# Altium footprint library IFBpcblib.PcbLib: 127 footprints (part 5 of 8)
Each footprint in its own frame and in the unit in brackets; x right, y up, seen from the top. Pads: shape width x height; smd on the part's side, far side on the other; paste and mask are expansions set on the pad; w line width, h text height; cw(c..) or ccw(c..) is an arc to the next point about the centre after c.
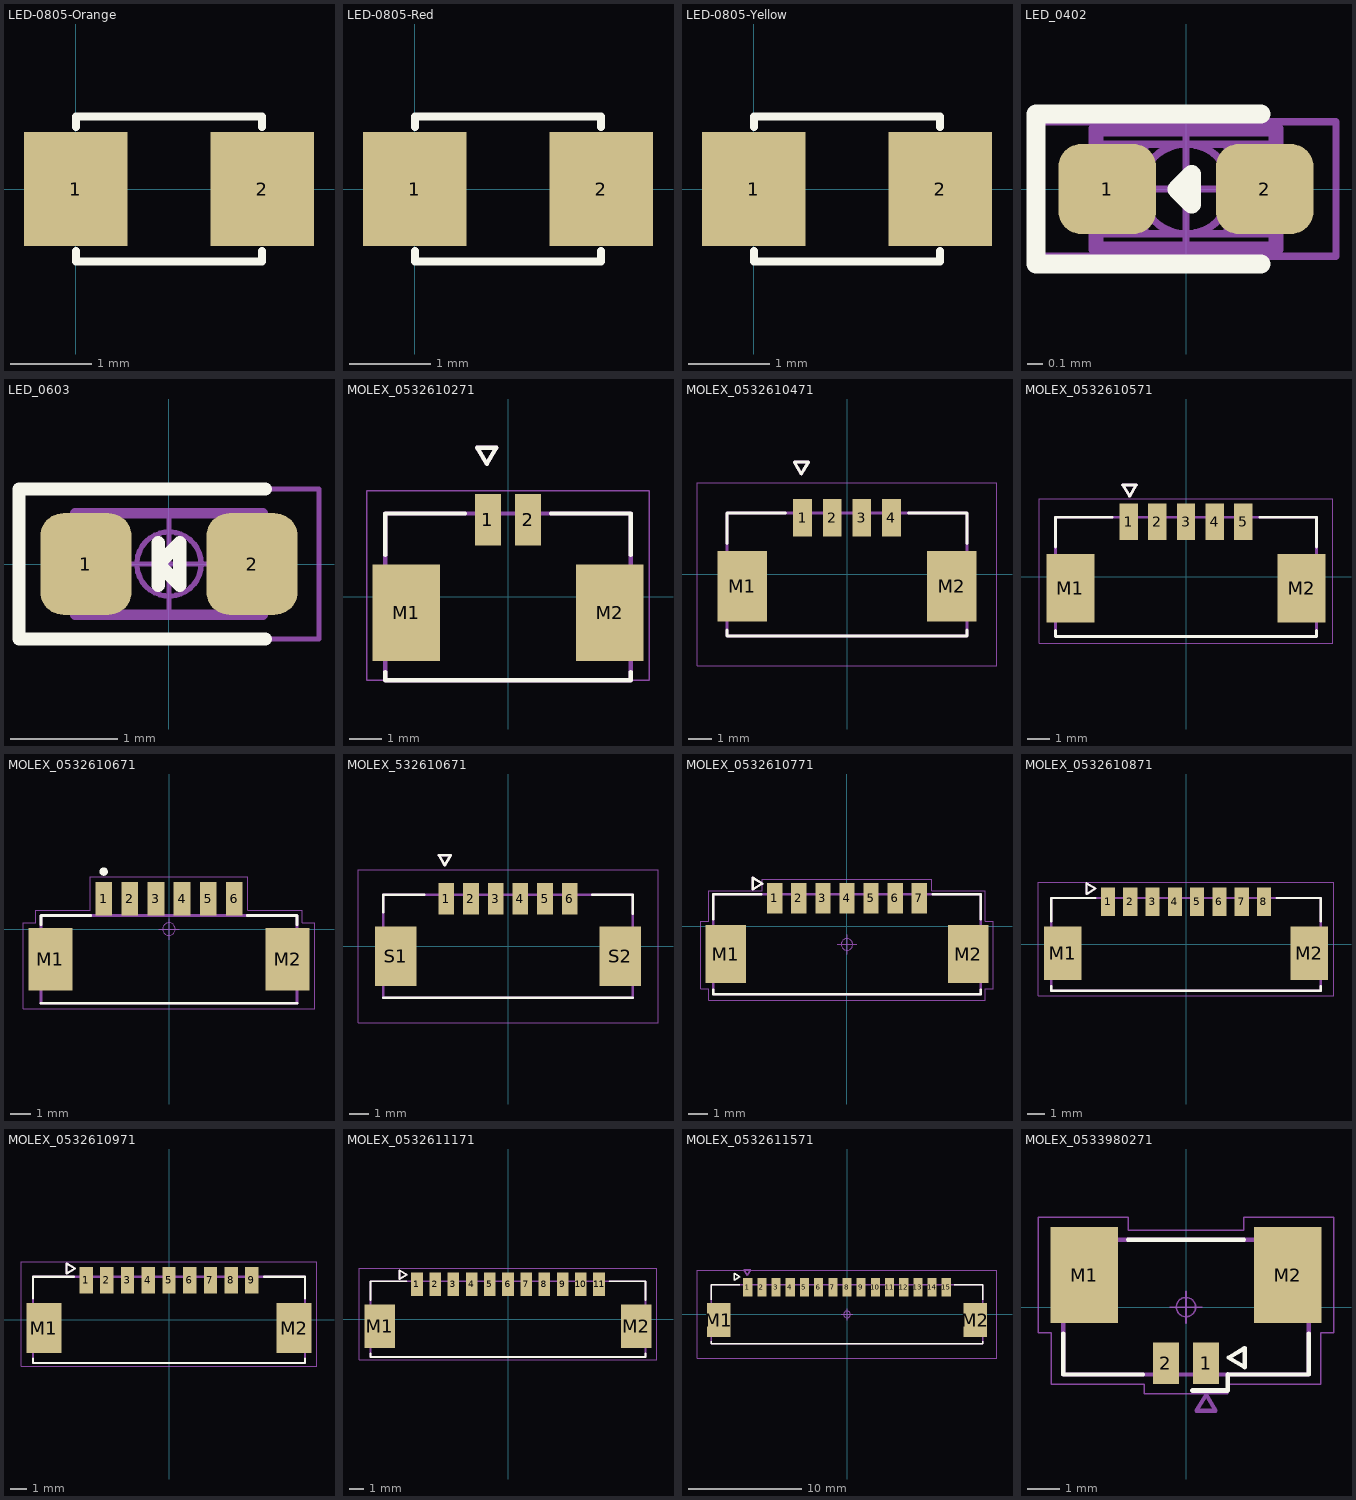
[diagram p4: the footprints below, top view; thin cyan lines are the x and y axes]

## LED-0805-Orange [mil]
pads (2):
  rect 50x55 smd: 1(0,0) 2(90,0)
Top Overlay:
  lines w4: 0,-30 0,-35 90,-35 90,-30 ; 0,30 0,35 90,35 90,30
3D body "User Library-led_0805-orange.step": height 43.31, standoff 0, extent 5.24,-24.6 84.77,24.61

## LED-0805-Red [mil]
pads (2):
  rect 50x55 smd: 1(0,0) 2(90,0)
Top Overlay:
  lines w4: 0,-30 0,-35 90,-35 90,-30 ; 0,30 0,35 90,35 90,30
3D body "User Library-led_0805-red.step": height 43.31, standoff 0, extent 5.24,-24.6 84.77,24.61

## LED-0805-Yellow [mil]
pads (2):
  rect 50x55 smd: 1(0,0) 2(90,0)
Top Overlay:
  lines w4: 0,-30 0,-35 90,-35 90,-30 ; 0,30 0,35 90,35 90,30
3D body "User Library-led_0805-yellow.step": height 43.31, standoff 0, extent 5.24,-24.6 84.77,24.61

## LED_0402 [mm]
pads (2):
  rrect50% 0.65x0.6 smd mask+0.05: 1(-0.525,0) 2(0.525,0)
Top Overlay:
  lines w0.125: 0.5,-0.5 -1,-0.5 -1,0.5 0.5,0.5 ; -0.061,-0.001 0.039,0.099 0.039,-0.101 -0.061,-0.001
Top Assembly:
  lines w0.1: -0.6,-0.4 -0.6,0.4 0.6,0.4 0.6,-0.4 -0.6,-0.4
Top Courtyard:
  lines w0.05: -1,-0.45 -0.575,-0.45 1,-0.45 1,0.45 -1,0.45 -1,-0.45
Top Component Outline:
  rectangle: 0.25,-0.3 0.55,0.3
  rectangle: -0.55,-0.3 -0.25,0.3
  lines w0.05: -0.55,-0.3 -0.55,0.3 0.55,0.3 0.55,-0.3 -0.55,-0.3
Top Component Center:
  circle w0.05: c0,0 r0.3
  lines w0.05: -0.5,0 0.5,0 ; 0,-0.5 0,0.5
3D body "User Library-LED-0402.STEP": height 0.45, standoff 0, extent -0.505,-0.25 0.505,0.25

## LED_0603 [mm]
pads (2):
  rrect50% 0.85x0.95 smd: 1(-0.775,0) 2(0.775,0)
Top Overlay:
  lines w0.125: -0.1,-0.2 -0.1,0.2 ; 0.9,-0.7 -1.4,-0.7 -1.4,0.7 0.9,0.7 ; -0.1,0 0.1,-0.2 0.1,0.2 -0.1,0
Top Assembly:
  lines w0.1: -0.875,-0.475 0.875,-0.475 0.875,0.475 -0.875,0.475 -0.875,-0.475
  text "'.Designator'" at -4.217,-0.663 h1.6
Top Courtyard:
  lines w0.05: -1.4,-0.7 1.4,-0.7 1.4,0.7 -1.4,0.7 -1.4,-0.7
Top Component Outline:
  rectangle: -0.875,-0.475 -0.475,0.475
  rectangle: 0.475,-0.475 0.875,0.475
  lines w0.05: -0.875,-0.475 -0.875,0.475 0.875,0.475 0.875,-0.475 -0.875,-0.475
Top Component Center:
  circle w0.05: c0,0 r0.3
  lines w0.05: -0.5,0 0.5,0 ; 0,-0.5 0,0.5
3D body "150060xxx.stp": height 0.7, standoff 0, extent -0.8,-0.4 0.8,0.4

## MOLEX_0532610271 [mm]
height 3.4
pads (4):
  rect 0.8x1.6 smd mask+0.076: 1(-0.625,2.4) 2(0.625,2.4)
  rect 2.1x3 smd mask+0.076: M1(-3.175,-0.5) M2(3.175,-0.5)
Top Overlay:
  lines w0.127: -3.825,-2.35 -3.825,-2.6 3.825,-2.6 3.825,-2.35 ; -3.825,1.3 -3.825,2.6 -1.345,2.6 ; 1.345,2.6 3.825,2.6 3.825,1.3 ; -0.96,4.645 -0.36,4.645 -0.66,4.145 -0.96,4.645
Mechanical 13:
  lines w0.127: -3.825,-2.6 3.825,-2.6 3.825,2.6 -3.825,2.6 -3.825,-2.6 ; -0.96,4.645 -0.36,4.645 -0.66,4.145 -0.96,4.645
Mechanical 15:
  lines w0.05: -4.4,-2.6 4.4,-2.6 4.4,3.3 -4.4,3.3 -4.4,-2.6
3D body "532610271.STEP": height 3.4, standoff 0, extent -3.825,-2.6 3.825,2.6

## MOLEX_0532610471 [mm]
height 3.4
pads (6):
  rect 0.8x1.6 smd mask+0.076: 1(-1.875,2.4) 2(-0.625,2.4) 3(0.625,2.4) 4(1.875,2.4)
  rect 2.1x3 smd mask+0.076: M1(-4.425,-0.5) M2(4.425,-0.5)
Top Overlay:
  lines w0.127: -5.075,-2.35 -5.075,-2.6 5.075,-2.6 5.075,-2.35 ; -5.075,1.3 -5.075,2.6 -2.595,2.6 ; 2.595,2.6 5.075,2.6 5.075,1.3 ; -2.23,4.752 -1.63,4.752 -1.93,4.252 -2.23,4.752
Mechanical 13:
  lines w0.127: -5.075,-2.6 5.075,-2.6 5.075,2.6 -5.075,2.6 -5.075,-2.6 ; -2.23,4.752 -1.63,4.752 -1.93,4.252 -2.23,4.752
Mechanical 15:
  lines w0.05: -6.345,-3.87 6.345,-3.87 6.345,3.87 -6.345,3.87 -6.345,-3.87
3D body "532610471.STEP": height 3.4, standoff -0.05, extent -5.075,-2.6 5.075,2.6

## MOLEX_0532610571 [mm]
height 3.4
pads (7):
  rect 0.8x1.6 smd mask+0.076: 1(-2.5,2.4) 2(-1.25,2.4) 3(0,2.4) 4(1.25,2.4) 5(2.5,2.4)
  rect 2.1x3 smd mask+0.076: M1(-5.05,-0.5) M2(5.05,-0.5)
Top Overlay:
  lines w0.127: -5.7,-2.35 -5.7,-2.6 5.7,-2.6 5.7,-2.35 ; -5.7,1.3 -5.7,2.6 -3.22,2.6 ; 3.22,2.6 5.7,2.6 5.7,1.3 ; -2.765,4.015 -2.165,4.015 -2.465,3.515 -2.765,4.015
Mechanical 13:
  lines w0.127: -5.7,-2.6 5.7,-2.6 5.7,2.6 -5.7,2.6 -5.7,-2.6 ; -2.765,4.015 -2.165,4.015 -2.465,3.515 -2.765,4.015
Mechanical 15:
  lines w0.05: -6.4,-2.9 6.4,-2.9 6.4,3.4 -6.4,3.4 -6.4,-2.9
3D body "532610571.stp": height 3.2, standoff -0.2, extent -5.7,-2.6 5.7,2.6

## MOLEX_0532610671 [mm]
pads (8):
  rect 0.8x1.6 smd: 1(-3.125,1.45) 2(-1.875,1.45) 3(-0.625,1.45) 4(0.625,1.45) 5(1.875,1.45) 6(3.125,1.45)
  rect 2.1x3 smd: M1(-5.675,-1.45) M2(5.675,-1.45)
Top Overlay:
  circle w0.2: c-3.125,2.75 r0.1
  lines w0.127: -6.125,-3.55 6.125,-3.55 ; -6.125,0.2 -6.125,0.65 -3.75,0.65 ; 3.75,0.65 6.125,0.65 6.125,0.2
Top Assembly:
  text "'.Designator'" at -3.952,-0.622 h1.5
Top Component Center:
  circle w0.05: c0,0 r0.3
  lines w0.05: -0.5,0 0.5,0 ; 0,-0.5 0,0.5
Mechanical 13:
  lines w0.127: -6.125,-3.55 -6.125,0.65 6.125,0.65 6.125,-3.55 -6.125,-3.55
Mechanical 15:
  lines w0.05: -6.975,-3.8 6.975,-3.8 6.975,0.3 6.375,0.3 6.375,0.9 3.775,0.9 3.775,2.5 -3.775,2.5 -3.775,0.9 -6.375,0.9 -6.375,0.3 -6.975,0.3 -6.975,-3.8
3D body "53261-0671.stp": height 3.4, standoff 0, extent -6.325,-3.429 6.325,1.771

## MOLEX_532610671 [mm]
height 3.4
pads (8):
  rect 0.8x1.6 smd: 1(-3.125,2.4) 2(-1.875,2.4) 3(-0.625,2.4) 4(0.625,2.4) 5(1.875,2.4) 6(3.125,2.4)
  rect 2.1x3 smd: S1(-5.675,-0.5) S2(5.675,-0.5)
Top Overlay:
  lines w0.127: -6.325,-2.6 6.325,-2.6 ; -6.325,1.727 -6.325,2.6 -4.242,2.6 ; 4.267,2.6 6.325,2.6 6.325,1.651 ; -3.5,4.605 -3.2,4.105 -2.9,4.605 -3.5,4.605
Mechanical 13:
  lines w0.127: -6.325,-2.6 -6.325,2.6 6.325,2.6 6.325,-2.6 -6.325,-2.6 ; -3.5,4.605 -3.2,4.105 -2.9,4.605 -3.5,4.605
Mechanical 15:
  lines w0.05: -7.595,-3.87 -7.595,3.87 7.595,3.87 7.595,-3.87 -7.595,-3.87
3D body "532610671.STEP": height 3.43, standoff 0.03, extent -6.325,-2.601 6.325,2.599

## MOLEX_0532610771 [mm]
height 3.4
pads (9):
  rect 0.8x1.6 smd mask+0.076: 1(-3.75,1.45) 2(-2.5,1.45) 3(-1.25,1.45) 4(0,1.45) 5(1.25,1.45) 6(2.5,1.45) 7(3.75,1.45)
  rect 2.1x3 smd mask+0.076: M1(-6.3,-1.45) M2(6.3,-1.45)
Top Overlay:
  lines w0.127: -6.95,-3.3 -6.95,-3.55 6.95,-3.55 6.95,-3.3 ; -6.95,0.35 -6.95,1.65 -4.47,1.65 ; 4.47,1.65 6.95,1.65 6.95,0.35 ; -4.895,1.915 -4.395,2.215 -4.895,2.515 -4.895,1.915
Top Assembly:
  text "'.Designator'" at -3.952,-1.572 h1.5
Top Courtyard:
  lines w0.05: -7.6,-3.25 -7.6,0.25 -7.2,0.25 -7.2,1.85 -4.4,1.85 -4.4,2.45 -4.2,2.45 4.4,2.45 4.4,1.85 7.2,1.85 7.2,0.25 7.6,0.25 7.6,-3.25 7.2,-3.25 7.2,-3.85 -7.2,-3.85 -7.2,-3.25 -7.6,-3.25
Top Component Center:
  circle w0.05: c0,-0.95 r0.3
  lines w0.05: -0.5,-0.95 0.5,-0.95 ; 0,-1.45 0,-0.45
Mechanical 13:
  lines w0.127: -6.95,-3.55 -6.95,1.65 6.95,1.65 6.95,-3.55 -6.95,-3.55 ; -4.895,1.915 -4.395,2.215 -4.895,2.515 -4.895,1.915
3D body "532610771.stp": height 3.4, standoff 0, extent -6.95,-3.61 6.95,1.59

## MOLEX_0532610871 [mm]
height 3.4
pads (10):
  rect 0.8x1.6 smd mask+0.076: 1(-4.375,2.4) 2(-3.125,2.4) 3(-1.875,2.4) 4(-0.625,2.4) 5(0.625,2.4) 6(1.875,2.4) 7(3.125,2.4) 8(4.375,2.4)
  rect 2.1x3 smd mask+0.076: M1(-6.925,-0.5) M2(6.925,-0.5)
Top Overlay:
  lines w0.127: -7.575,-2.35 -7.575,-2.6 7.575,-2.6 7.575,-2.35 ; -7.575,1.3 -7.575,2.6 -5.095,2.6 ; 5.095,2.6 7.575,2.6 7.575,1.3 ; -5.585,2.83 -5.085,3.13 -5.585,3.43 -5.585,2.83
Top Courtyard:
  lines w0.05: -8.3,-2.9 8.3,-2.9 8.3,-2.3 8.3,1.3 8.3,3.5 5.1,3.5 -4.8,3.5 -5.1,3.5 -8.3,3.5 -8.3,1.3 -8.3,-2.3 -8.3,-2.9
Mechanical 13:
  lines w0.127: -7.575,-2.6 -7.575,2.6 7.575,2.6 7.575,-2.6 -7.575,-2.6 ; -5.585,2.83 -5.085,3.13 -5.585,3.43 -5.585,2.83
3D body "532610871.STEP": height 3.4, standoff 0, extent -7.575,-2.6 7.575,2.6

## MOLEX_0532610971 [mm]
height 3.4
pads (11):
  rect 0.8x1.6 smd mask+0.076: 1(-5,2.4) 2(-3.75,2.4) 3(-2.5,2.4) 4(-1.25,2.4) 5(0,2.4) 6(1.25,2.4) 7(2.5,2.4) 8(3.75,2.4) 9(5,2.4)
  rect 2.1x3 smd mask+0.076: M1(-7.55,-0.5) M2(7.55,-0.5)
Top Overlay:
  lines w0.127: -8.2,-2.35 -8.2,-2.6 8.2,-2.6 8.2,-2.35 ; -8.2,1.3 -8.2,2.6 -5.72,2.6 ; 5.72,2.6 8.2,2.6 8.2,1.3 ; -6.175,2.795 -5.675,3.095 -6.175,3.395 -6.175,2.795
Top Courtyard:
  lines w0.05: -8.9,-2.8 -8.9,3.5 8.9,3.5 8.9,-2.8 -8.9,-2.8
Mechanical 13:
  lines w0.127: -8.2,-2.6 -8.2,2.6 8.2,2.6 8.2,-2.6 -8.2,-2.6 ; -6.175,2.795 -5.675,3.095 -6.175,3.395 -6.175,2.795
3D body "532610971.stp": height 3.4, standoff 0, extent -8.2,-2.6 8.2,2.6

## MOLEX_0532611171 [mm]
height 3.4
pads (13):
  rect 0.8x1.6 smd mask+0.076: 1(-6.25,2.4) 2(-5,2.4) 3(-3.75,2.4) 4(-2.5,2.4) 5(-1.25,2.4) 6(0,2.4) 7(1.25,2.4) 8(2.5,2.4) 9(3.75,2.4) 10(5,2.4) 11(6.25,2.4)
  rect 2.1x3 smd mask+0.076: M1(-8.8,-0.5) M2(8.8,-0.5)
Top Overlay:
  lines w0.127: -9.45,-2.35 -9.45,-2.6 9.45,-2.6 9.45,-2.35 ; -9.45,1.3 -9.45,2.6 -6.97,2.6 ; 6.97,2.6 9.45,2.6 9.45,1.3 ; -7.455,2.752 -6.955,3.052 -7.455,3.352 -7.455,2.752
Top Courtyard:
  lines w0.05: -10.2,-2.8 10.2,-2.8 10.2,3.5 -10.2,3.5 -10.2,-2.8
Mechanical 13:
  lines w0.127: -9.45,-2.6 -9.45,2.6 9.45,2.6 9.45,-2.6 -9.45,-2.6 ; -7.455,2.752 -6.955,3.052 -7.455,3.352 -7.455,2.752
3D body "532611171.stp": height 3.4, standoff 0, extent -9.45,-2.6 9.45,2.6

## MOLEX_0532611571 [mm]
height 3.4
pads (17):
  rect 0.8x1.6 smd mask+0.076: 1(-8.75,2.4) 2(-7.5,2.4) 3(-6.25,2.4) 4(-5,2.4) 5(-3.75,2.4) 6(-2.5,2.4) 7(-1.25,2.4) 8(0,2.4) 9(1.25,2.4) 10(2.5,2.4) 11(3.75,2.4) 12(5,2.4) 13(6.25,2.4) 14(7.5,2.4) 15(8.75,2.4)
  rect 2.1x3 smd mask+0.076: M1(-11.3,-0.5) M2(11.3,-0.5)
Top Overlay:
  lines w0.127: -11.95,-2.35 -11.95,-2.6 11.95,-2.6 11.95,-2.35 ; -11.95,1.3 -11.95,2.6 -9.47,2.6 ; 9.47,2.6 11.95,2.6 11.95,1.3 ; -9.942,3.012 -9.942,3.612 -9.442,3.312 -9.942,3.012
Top Assembly:
  lines w0.127: -11.95,-2.6 11.95,-2.6 11.95,2.6 -11.95,2.6 -11.95,-2.6 ; -9.088,3.942 -8.488,3.942 -8.788,3.442 -9.088,3.942
  text "'.Designator'" at -4.433,-0.827 h1.6
Top Courtyard:
  lines w0.05: -13.22,-3.87 13.22,-3.87 13.22,3.87 -13.22,3.87 -13.22,-3.87
Bottom 3D Body:
  text "'.Designator'" at -4.433,-0.827 h1.6
Top Component Center:
  circle w0.05: c0,0 r0.3
  lines w0.05: -0.5,0 0.5,0 ; 0,-0.5 0,0.5
3D body "532611571.stp": height 3.45, standoff 0.05, extent -11.95,-2.607 11.95,2.593

## MOLEX_0533980271 [mm]
height 4.7
pads (4):
  rect 0.8x1.3 smd mask+0.076: 1(0.625,-1.75) 2(-0.625,-1.75)
  rect 2.1x3 smd mask+0.076: M1(-3.175,1) M2(3.175,1)
Top Overlay:
  lines w0.127: -3.825,-0.82 -3.825,-2.1 -1.345,-2.1 ; -1.805,2.1 1.805,2.1 ; 1.345,-2.1 3.825,-2.1 3.825,-0.82 ; 1.33,-1.575 1.83,-1.275 1.83,-1.875 1.33,-1.575
  lines w0.15: 0.2,-2.6 1.3,-2.6 1.3,-2.1
Top Assembly:
  lines w0.127: -3.825,-2.1 3.825,-2.1 3.825,2.1 -3.825,2.1 -3.825,-2.1 ; 0.325,-3.23 0.625,-2.73 0.925,-3.23 0.325,-3.23
  text "'.Designator'" at -4.217,-0.663 h1.6
Top Courtyard:
  lines w0.05: -4.6,-0.8 -4.6,2.8 -1.8,2.8 -1.8,2.4 1.8,2.4 1.8,2.8 4.2,2.8 4.6,2.8 4.6,-0.8 4.2,-0.8 4.2,-2.4 1.3,-2.4 1.3,-2.7 -1.3,-2.7 -1.3,-2.4 -4.2,-2.4 -4.2,-0.8 -4.6,-0.8
Top Component Center:
  circle w0.05: c0,0 r0.3
  lines w0.05: -0.5,0 0.5,0 ; 0,-0.5 0,0.5
3D body "533980271.STEP": height 4.7, standoff 0, extent -3.825,-2.096 3.825,2.104